# Altium schematic symbol library SCH - MCU - ATSAM - MICROCHIP SAM9X60-CU BGA228.SchLib: 1 symbol
Pins are listed as number, name and electrical type; pins without a type are passive.

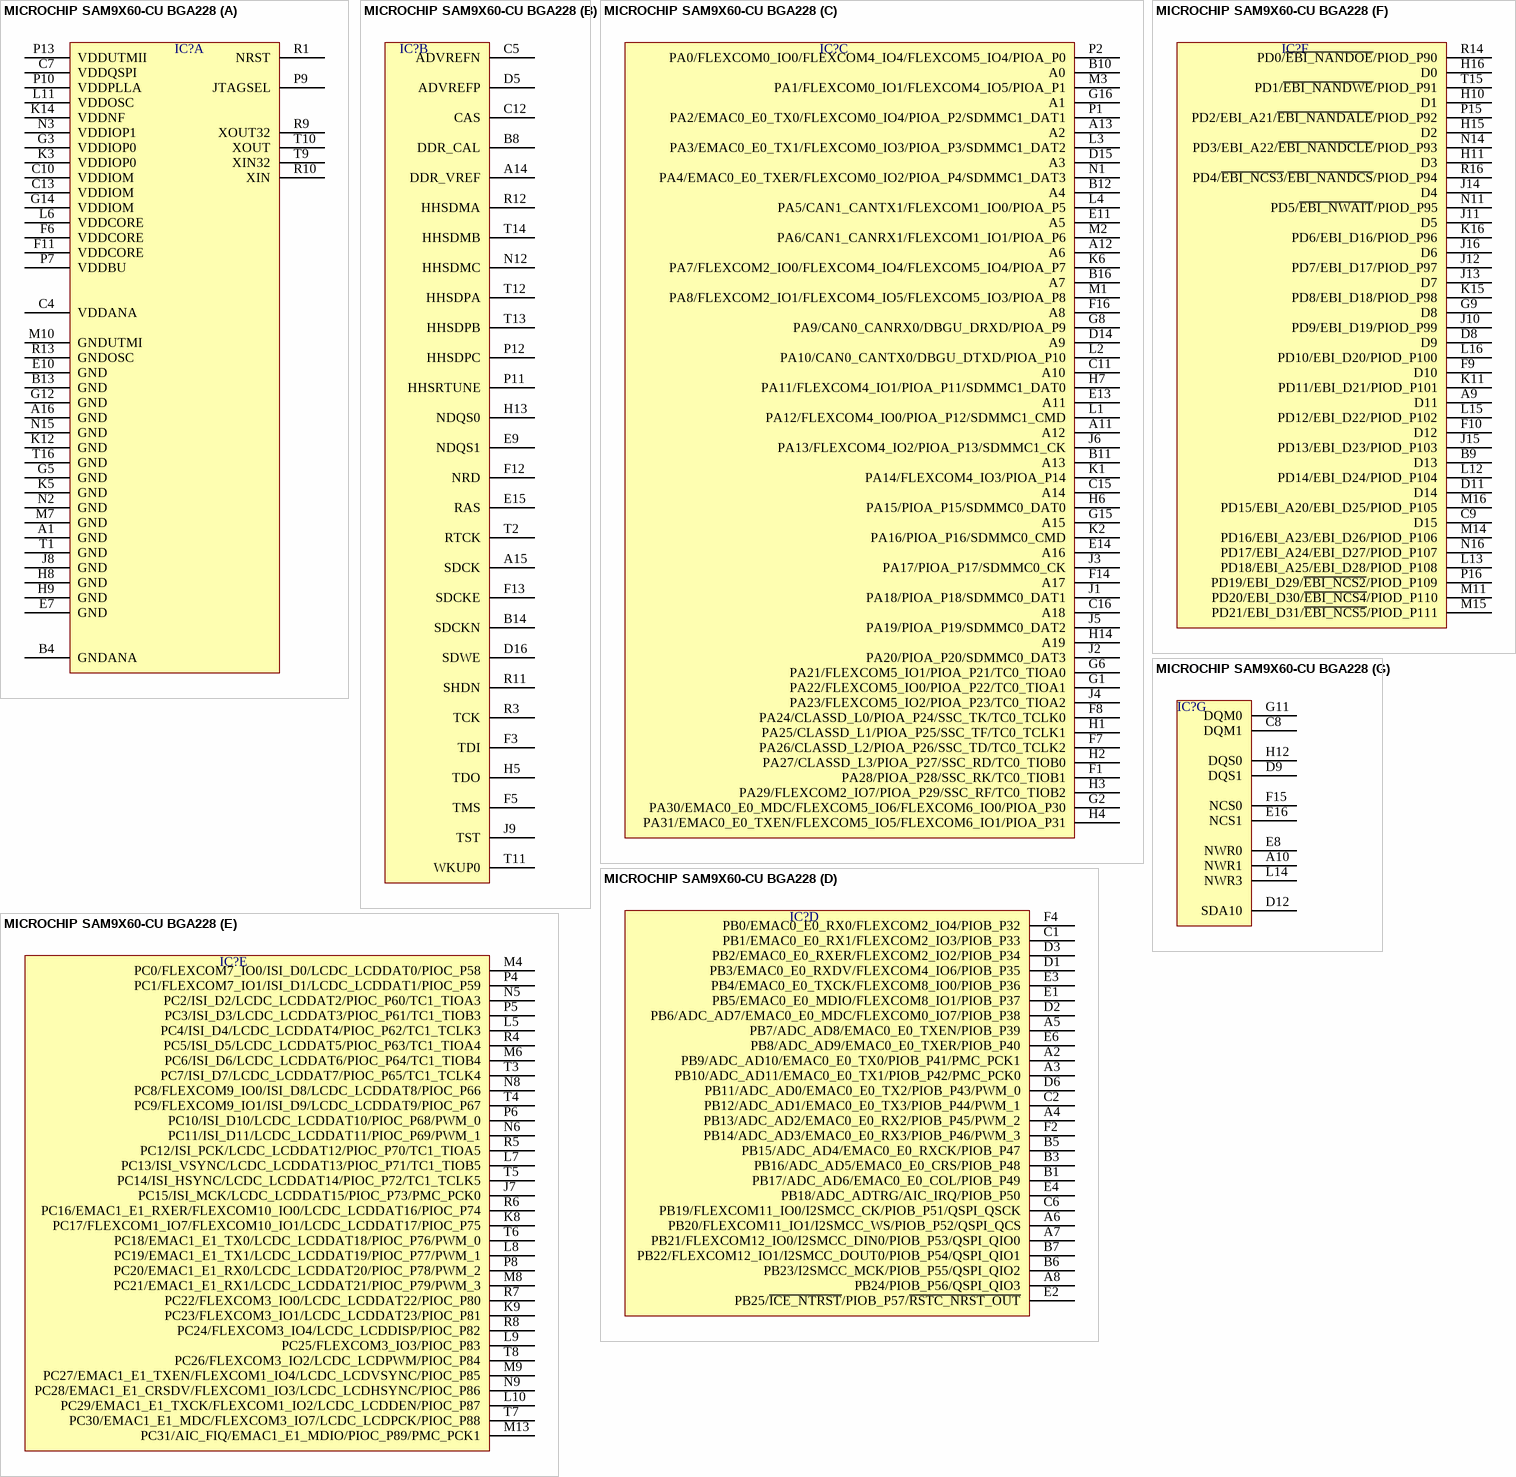
[diagram p0: symbol MICROCHIP SAM9X60-CU BGA228]

## MICROCHIP SAM9X60-CU BGA228
designator IC?  (value not drawn)
part A pins: A1 GND, A16 GND, B4 GNDANA, B13 GND, C4 VDDANA, C7 VDDQSPI, C10 VDDIOM, C13 VDDIOM, E7 GND, E10 GND, F6 VDDCORE, F11 VDDCORE, G3 VDDIOP0, G5 GND, G12 GND, G14 VDDIOM, H8 GND, H9 GND, J8 GND, K3 VDDIOP0, K5 GND, K12 GND, K14 VDDNF, L6 VDDCORE, L11 VDDOSC, M7 GND, M10 GNDUTMI, N2 GND, N3 VDDIOP1, N15 GND, P7 VDDBU, P9 JTAGSEL, P10 VDDPLLA, P13 VDDUTMII, R1 NRST, R9 XOUT32, R10 XIN, R13 GNDOSC, T1 GND, T9 XIN32, T10 XOUT, T16 GND
part B pins: A14 DDR_VREF, A15 SDCK, B8 DDR_CAL, B14 SDCKN, C5 ADVREFN, C12 CAS, D5 ADVREFP, D16 SDWE, E9 NDQS1, E15 RAS, F3 TDI, F5 TMS, F12 NRD, F13 SDCKE, H5 TDO, H13 NDQS0, J9 TST, N12 HHSDMC, P11 HHSRTUNE, P12 HHSDPC, R3 TCK, R11 SHDN, R12 HHSDMA, T2 RTCK, T11 WKUP0, T12 HHSDPA, T13 HHSDPB, T14 HHSDMB
part C pins: A11 A12, A12 A6, A13 A2, B10 A0, B11 A13, B12 A4, B16 A7, C11 A10, C15 A14, C16 A18, D14 A9, D15 A3, E11 A5, E13 A11, E14 A16, F1 PA28/PIOA_P28/SSC_RK/TC0_TIOB1, F7 PA26/CLASSD_L2/PIOA_P26/SSC_TD/TC0_TCLK2, F8 PA24/CLASSD_L0/PIOA_P24/SSC_TK/TC0_TCLK0, F14 A17, F16 A8, G1 PA22/FLEXCOM5_IO0/PIOA_P22/TC0_TIOA1, G2 PA30/EMAC0_E0_MDC/FLEXCOM5_IO6/FLEXCOM6_IO0/PIOA_P30, G6 PA21/FLEXCOM5_IO1/PIOA_P21/TC0_TIOA0, G8 PA9/CAN0_CANRX0/DBGU_DRXD/PIOA_P9, G15 A15, G16 A1, H1 PA25/CLASSD_L1/PIOA_P25/SSC_TF/TC0_TCLK1, H2 PA27/CLASSD_L3/PIOA_P27/SSC_RD/TC0_TIOB0, H3 PA29/FLEXCOM2_IO7/PIOA_P29/SSC_RF/TC0_TIOB2, H4 PA31/EMAC0_E0_TXEN/FLEXCOM5_IO5/FLEXCOM6_IO1/PIOA_P31, H6 PA15/PIOA_P15/SDMMC0_DAT0, H7 PA11/FLEXCOM4_IO1/PIOA_P11/SDMMC1_DAT0, H14 A19, J1 PA18/PIOA_P18/SDMMC0_DAT1, J2 PA20/PIOA_P20/SDMMC0_DAT3, J3 PA17/PIOA_P17/SDMMC0_CK, J4 PA23/FLEXCOM5_IO2/PIOA_P23/TC0_TIOA2, J5 PA19/PIOA_P19/SDMMC0_DAT2, J6 PA13/FLEXCOM4_IO2/PIOA_P13/SDMMC1_CK, K1 PA14/FLEXCOM4_IO3/PIOA_P14, K2 PA16/PIOA_P16/SDMMC0_CMD, K6 PA7/FLEXCOM2_IO0/FLEXCOM4_IO4/FLEXCOM5_IO4/PIOA_P7, L1 PA12/FLEXCOM4_IO0/PIOA_P12/SDMMC1_CMD, L2 PA10/CAN0_CANTX0/DBGU_DTXD/PIOA_P10, L3 PA3/EMAC0_E0_TX1/FLEXCOM0_IO3/PIOA_P3/SDMMC1_DAT2, L4 PA5/CAN1_CANTX1/FLEXCOM1_IO0/PIOA_P5, M1 PA8/FLEXCOM2_IO1/FLEXCOM4_IO5/FLEXCOM5_IO3/PIOA_P8, M2 PA6/CAN1_CANRX1/FLEXCOM1_IO1/PIOA_P6, M3 PA1/FLEXCOM0_IO1/FLEXCOM4_IO5/PIOA_P1, N1 PA4/EMAC0_E0_TXER/FLEXCOM0_IO2/PIOA_P4/SDMMC1_DAT3, P1 PA2/EMAC0_E0_TX0/FLEXCOM0_IO4/PIOA_P2/SDMMC1_DAT1, P2 PA0/FLEXCOM0_IO0/FLEXCOM4_IO4/FLEXCOM5_IO4/PIOA_P0
part D pins: A2 PB9/ADC_AD10/EMAC0_E0_TX0/PIOB_P41/PMC_PCK1, A3 PB10/ADC_AD11/EMAC0_E0_TX1/PIOB_P42/PMC_PCK0, A4 PB13/ADC_AD2/EMAC0_E0_RX2/PIOB_P45/PWM_2, A5 PB7/ADC_AD8/EMAC0_E0_TXEN/PIOB_P39, A6 PB20/FLEXCOM11_IO1/I2SMCC_WS/PIOB_P52/QSPI_QCS, A7 PB21/FLEXCOM12_IO0/I2SMCC_DIN0/PIOB_P53/QSPI_QIO0, A8 PB24/PIOB_P56/QSPI_QIO3, B1 PB17/ADC_AD6/EMAC0_E0_COL/PIOB_P49, B3 PB16/ADC_AD5/EMAC0_E0_CRS/PIOB_P48, B5 PB15/ADC_AD4/EMAC0_E0_RXCK/PIOB_P47, B6 PB23/I2SMCC_MCK/PIOB_P55/QSPI_QIO2, B7 PB22/FLEXCOM12_IO1/I2SMCC_DOUT0/PIOB_P54/QSPI_QIO1, C1 PB1/EMAC0_E0_RX1/FLEXCOM2_IO3/PIOB_P33, C2 PB12/ADC_AD1/EMAC0_E0_TX3/PIOB_P44/PWM_1, C6 PB19/FLEXCOM11_IO0/I2SMCC_CK/PIOB_P51/QSPI_QSCK, D1 PB3/EMAC0_E0_RXDV/FLEXCOM4_IO6/PIOB_P35, D2 PB6/ADC_AD7/EMAC0_E0_MDC/FLEXCOM0_IO7/PIOB_P38, D3 PB2/EMAC0_E0_RXER/FLEXCOM2_IO2/PIOB_P34, D6 PB11/ADC_AD0/EMAC0_E0_TX2/PIOB_P43/PWM_0, E1 PB5/EMAC0_E0_MDIO/FLEXCOM8_IO1/PIOB_P37, E2 PB25/~{ICE_NTRST}/PIOB_P57/~{RSTC_NRST_OUT}, E3 PB4/EMAC0_E0_TXCK/FLEXCOM8_IO0/PIOB_P36, E4 PB18/ADC_ADTRG/AIC_IRQ/PIOB_P50, E6 PB8/ADC_AD9/EMAC0_E0_TXER/PIOB_P40, F2 PB14/ADC_AD3/EMAC0_E0_RX3/PIOB_P46/PWM_3, F4 PB0/EMAC0_E0_RX0/FLEXCOM2_IO4/PIOB_P32
part E pins: J7 PC15/ISI_MCK/LCDC_LCDDAT15/PIOC_P73/PMC_PCK0, K8 PC17/FLEXCOM1_IO7/FLEXCOM10_IO1/LCDC_LCDDAT17/PIOC_P75, K9 PC23/FLEXCOM3_IO1/LCDC_LCDDAT23/PIOC_P81, L5 PC4/ISI_D4/LCDC_LCDDAT4/PIOC_P62/TC1_TCLK3, L7 PC13/ISI_VSYNC/LCDC_LCDDAT13/PIOC_P71/TC1_TIOB5, L8 PC19/EMAC1_E1_TX1/LCDC_LCDDAT19/PIOC_P77/PWM_1, L9 PC25/FLEXCOM3_IO3/PIOC_P83, L10 PC29/EMAC1_E1_TXCK/FLEXCOM1_IO2/LCDC_LCDDEN/PIOC_P87, M4 PC0/FLEXCOM7_IO0/ISI_D0/LCDC_LCDDAT0/PIOC_P58, M6 PC6/ISI_D6/LCDC_LCDDAT6/PIOC_P64/TC1_TIOB4, M8 PC21/EMAC1_E1_RX1/LCDC_LCDDAT21/PIOC_P79/PWM_3, M9 PC27/EMAC1_E1_TXEN/FLEXCOM1_IO4/LCDC_LCDVSYNC/PIOC_P85, M13 PC31/AIC_FIQ/EMAC1_E1_MDIO/PIOC_P89/PMC_PCK1, N5 PC2/ISI_D2/LCDC_LCDDAT2/PIOC_P60/TC1_TIOA3, N6 PC11/ISI_D11/LCDC_LCDDAT11/PIOC_P69/PWM_1, N8 PC8/FLEXCOM9_IO0/ISI_D8/LCDC_LCDDAT8/PIOC_P66, N9 PC28/EMAC1_E1_CRSDV/FLEXCOM1_IO3/LCDC_LCDHSYNC/PIOC_P86, P4 PC1/FLEXCOM7_IO1/ISI_D1/LCDC_LCDDAT1/PIOC_P59, P5 PC3/ISI_D3/LCDC_LCDDAT3/PIOC_P61/TC1_TIOB3, P6 PC10/ISI_D10/LCDC_LCDDAT10/PIOC_P68/PWM_0, P8 PC20/EMAC1_E1_RX0/LCDC_LCDDAT20/PIOC_P78/PWM_2, R4 PC5/ISI_D5/LCDC_LCDDAT5/PIOC_P63/TC1_TIOA4, R5 PC12/ISI_PCK/LCDC_LCDDAT12/PIOC_P70/TC1_TIOA5, R6 PC16/EMAC1_E1_RXER/FLEXCOM10_IO0/LCDC_LCDDAT16/PIOC_P74, R7 PC22/FLEXCOM3_IO0/LCDC_LCDDAT22/PIOC_P80, R8 PC24/FLEXCOM3_IO4/LCDC_LCDDISP/PIOC_P82, T3 PC7/ISI_D7/LCDC_LCDDAT7/PIOC_P65/TC1_TCLK4, T4 PC9/FLEXCOM9_IO1/ISI_D9/LCDC_LCDDAT9/PIOC_P67, T5 PC14/ISI_HSYNC/LCDC_LCDDAT14/PIOC_P72/TC1_TCLK5, T6 PC18/EMAC1_E1_TX0/LCDC_LCDDAT18/PIOC_P76/PWM_0, T7 PC30/EMAC1_E1_MDC/FLEXCOM3_IO7/LCDC_LCDPCK/PIOC_P88, T8 PC26/FLEXCOM3_IO2/LCDC_LCDPWM/PIOC_P84
part F pins: A9 D11, B9 D13, C9 D15, D8 D9, D11 D14, F9 D10, F10 D12, G9 D8, H10 D1, H11 D3, H15 D2, H16 D0, J10 PD9/EBI_D19/PIOD_P99, J11 D5, J12 PD7/EBI_D17/PIOD_P97, J13 D7, J14 D4, J15 PD13/EBI_D23/PIOD_P103, J16 D6, K11 PD11/EBI_D21/PIOD_P101, K15 PD8/EBI_D18/PIOD_P98, K16 PD6/EBI_D16/PIOD_P96, L12 PD14/EBI_D24/PIOD_P104, L13 PD18/EBI_A25/EBI_D28/PIOD_P108, L15 PD12/EBI_D22/PIOD_P102, L16 PD10/EBI_D20/PIOD_P100, M11 PD20/EBI_D30/~{EBI_NCS4}/PIOD_P110, M14 PD16/EBI_A23/EBI_D26/PIOD_P106, M15 PD21/EBI_D31/~{EBI_NCS5}/PIOD_P111, M16 PD15/EBI_A20/EBI_D25/PIOD_P105, N11 PD5/~{EBI_NWAIT}/PIOD_P95, N14 PD3/EBI_A22/~{EBI_NANDCLE}/PIOD_P93, N16 PD17/EBI_A24/EBI_D27/PIOD_P107, P15 PD2/EBI_A21/~{EBI_NANDALE}/PIOD_P92, P16 PD19/EBI_D29/~{EBI_NCS2}/PIOD_P109, R14 PD0/~{EBI_NANDOE}/PIOD_P90, R16 PD4/~{EBI_NCS3}/~{EBI_NANDCS}/PIOD_P94, T15 PD1/~{EBI_NANDWE}/PIOD_P91
part G pins: A10 NWR1, C8 DQM1, D9 DQS1, D12 SDA10, E8 NWR0, E16 NCS1, F15 NCS0, G11 DQM0, H12 DQS0, L14 NWR3